# Altium schematic symbol library Supply.SchLib: 4 symbols
Pins are listed as number, name and electrical type; pins without a type are passive.

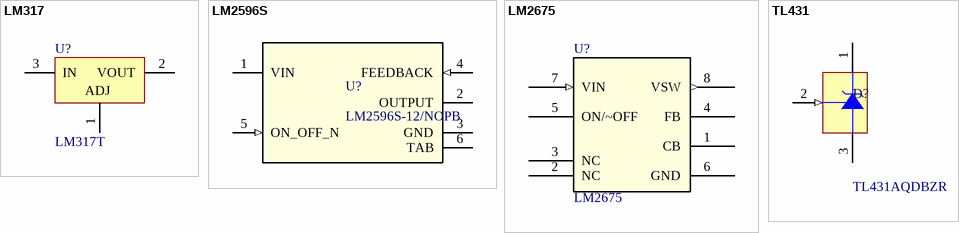
[diagram p0: symbols LM317 to TL431]

## LM317
designator U?, comment LM317T
Three-Terminal High Current Positive Voltage Regulator; PN: 1005.0003; PackageReference: TO-220; Value: LM317T
footprint TO-220 (TO, Thru-Hole, Vertical, 3 In-Line Leads; Pitch 2.54 mm)
footprint TO-220 - HORIZ (TO, Thru-Hole, horizontal, 3 In-Line Leads; Pitch 2.54 mm)
pins: 1 ADJ (power), 2 VOUT (power), 3 IN (power)

## LM2596S
designator U?, comment LM2596S-12/NOPB
SIMPLE SWITCHER&reg; 4.5V to 40V, 3A Low Component Count Step-Down Regulator 5-DDPAK/TO-263; Manufacturer_Name: Texas Instruments; PartNumber: LM2596SX-ADJ/NOPB; Alternate_PartNumber: LM2596S-ADJ/NOPB; CompType: IC; TYPE: TYPE; RefDes: RefDes; Copyright: Copyright (C) 2025 Ultra Librarian. All rights reserved.; Manufacturer_Part_Number: LM2596S-12/NOPB; PackageReference: KTT0005B; MountType: SMT; RoHS: Y; Manufacturer: Texas Instruments
footprint TO-263
footprint TO-263
pins: 1 VIN (power), 2 OUTPUT (power), 3 GND (power), 4 FEEDBACK (in), 5 ON_OFF_N (in), 6 TAB (power)

## LM2675
designator U?
SIMPLE SWITCHER&reg; 6.5V to 40V, 1A Low Component Count Step-Down Regulator 8-SOIC -40 to 125; Manufacturer_Name: Texas Instruments; Manufacturer_Part_Number: LM2675M-12; Type: LM2675M-12; Copyright: Copyright (C) 2025 Ultra Librarian. All rights reserved.; Datasheet: https://www.ti.com/lit/gpn/lm2675; RefDes: RefDes
footprint SOIC-8-M
pins: 1 CB, 2 NC, 3 NC, 4 FB, 5 ON/~OFF, 6 GND, 7 VIN (in), 8 VSW (out)

## TL431
designator D?, comment TL431AQDBZR
Programmable Precision Reference; MFT: Texas Instruments; Published: 17-Jul-2002; DatasheetVersion: 1988; PackageVersion: 1996; PackageReference: 29-04; Publisher: Altium Limited; PackageDescription: TO, Flat Index; 3 In-Line, Axial Leads; Body Dia. 4.8mm; Leads 0.48 x 0.5 mm (max); ComponentLink1Description: Manufacturer Link; ComponentLink1URL: http://www.onsemi.com/site/products/taxonomy/0,4438,503,00.html; ComponentLink2Description: Datasheet; ComponentLink2URL: http://www.onsemi.com/pub/Collateral/TL431-D.PDF; PN: TL431AQDBZR
footprint SOT-23 (SOT23, 3-Leads, Body 2.9x1.3mm, Pitch 0.95mm, Lead Span 2.4mm, IPC Medium Density)
pins: 1 K, 2 REF (in), 3 A